# EAGLE library part LTC4357CMS8#PBF (library LTC4357CMS8#PBF)
Hot Swap Controller 1-CH 80V N-Channel Positive High Voltage Automotive 8-Pin MSOP Tube Source: Datasheet <https://www.arrow.com/en/products/ltc4357cms8pbf/analog-devices>
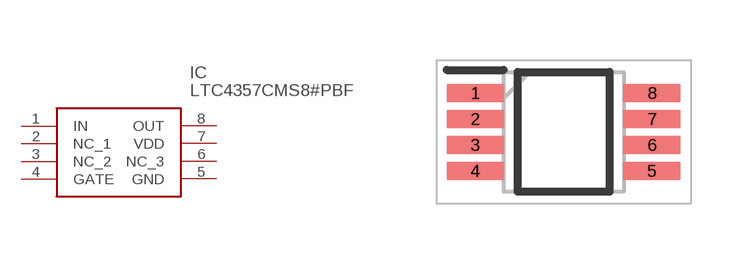
[diagram p0: symbol with the pads of SOP65P490X110-8N; footprint SOP65P490X110-8N]

Designator prefix IC

## LTC4357CMS8#PBF (Description: Hot Swap Controller 1-CH 80V N-Channel Positive High Voltage Automotive 8-Pin MSOP Tube; Height: 1.1mm; Manufacturer_Name: Analog Devices; Manufacturer_Part_Number: LTC4357CMS8#PBF; Mouser_Part_Number: 584-LTC4357CMS8#PBF; Mouser_Price-Stock: https://www.mouser.co.uk/ProductDetail/Analog-Devices/LTC4357CMS8PBF?qs=hVkxg5c3xu%252BQOMvU8ilEog%3D%3D)  [SOP65P490X110-8N]
1  IN
2  NC_1
3  NC_2
4  GATE
5  GND
6  NC_3
7  VDD
8  OUT

## Footprint SOP65P490X110-8N (pad centres in mm)
MS8 Package 8-Lead Plastic MSOP
smd 1.425 x 0.45: 1 -2.212,0.975; 2 -2.212,0.325; 3 -2.212,-0.325; 4 -2.212,-0.975; 5 2.212,-0.975; 6 2.212,-0.325; 7 2.212,0.325; 8 2.212,0.975